# EAGLE library part DVI-I-V (library sibosop-con-molex)
CONNECTOR MiroCross(TM)-DVI i/0 plug and receptacle connector system (scart)
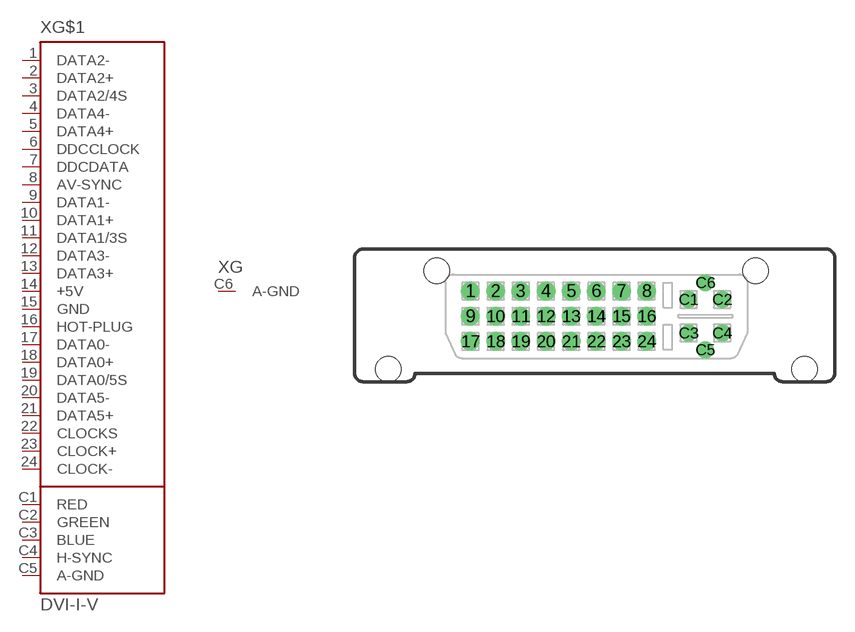
[diagram p1: symbol with the pads of DVI-I-V; footprint DVI-I-V]

Designator prefix X; gates G$1=DVI-I G=AGND

## DVI-I-V  [DVI-I-V]
1  G$1:DATA2-  pas
2  G$1:DATA2+  pas
3  G$1:DATA2/4S  pas
4  G$1:DATA4-  pas
5  G$1:DATA4+  pas
6  G$1:DDCCLOCK  pas
7  G$1:DDCDATA  pas
8  G$1:AV-SYNC  pas
9  G$1:DATA1-  pas
10  G$1:DATA1+  pas
11  G$1:DATA1/3S  pas
12  G$1:DATA3-  pas
13  G$1:DATA3+  pas
14  G$1:+5V  pwr
15  G$1:GND  pwr
16  G$1:HOT-PLUG  pas
17  G$1:DATA0-  pas
18  G$1:DATA0+  pas
19  G$1:DATA0/5S  pas
20  G$1:DATA5-  pas
21  G$1:DATA5+  pas
22  G$1:CLOCKS  pas
23  G$1:CLOCK+  pas
24  G$1:CLOCK-  pas
C1  G$1:RED  pas
C2  G$1:GREEN  pas
C3  G$1:BLUE  pas
C4  G$1:H-SYNC  pas
C5  G$1:A-GND  pwr
C6  G:A-GND  pwr

## Footprint DVI-I-V (pad centres in mm)
CONNECTOR MiroCross(TM)-DVI i/0 plug and receptacle connector system (scart)
drill 0.864 pad 1.397 round: 1 -9.525,1.27; 2 -7.62,1.27; 3 -5.715,1.27; 4 -3.81,1.27; 5 -1.905,1.27; 6 0,1.27; 7 1.905,1.27; 8 3.81,1.27; 9 -9.525,-0.635; 10 -7.62,-0.635; 11 -5.715,-0.635; 12 -3.81,-0.635; 13 -1.905,-0.635; 14 0,-0.635; 15 1.905,-0.635; 16 3.81,-0.635; 17 -9.525,-2.54; 18 -7.62,-2.54; 19 -5.715,-2.54; 20 -3.81,-2.54; 21 -1.905,-2.54; 22 0,-2.54; 23 1.905,-2.54; 24 3.81,-2.54
drill 0.66 pad 1.27 round: C1 6.985,0.635; C2 9.525,0.635; C3 6.985,-1.905; C4 9.525,-1.905; C5 8.255,-3.175; C6 8.255,1.905
hole 1.93 at -12.065,2.794
hole 1.93 at 12.065,2.794
hole 1.93 at -15.748,-4.648
hole 1.93 at 15.748,-4.648